# Altium footprint library acelerometerLib.PcbLib: 6 footprints
Each footprint in its own frame and in the unit in brackets; x right, y up, seen from the top. Pads: shape width x height; smd on the part's side, far side on the other; paste and mask are expansions set on the pad; w line width, h text height; cw(c..) or ccw(c..) is an arc to the next point about the centre after c.
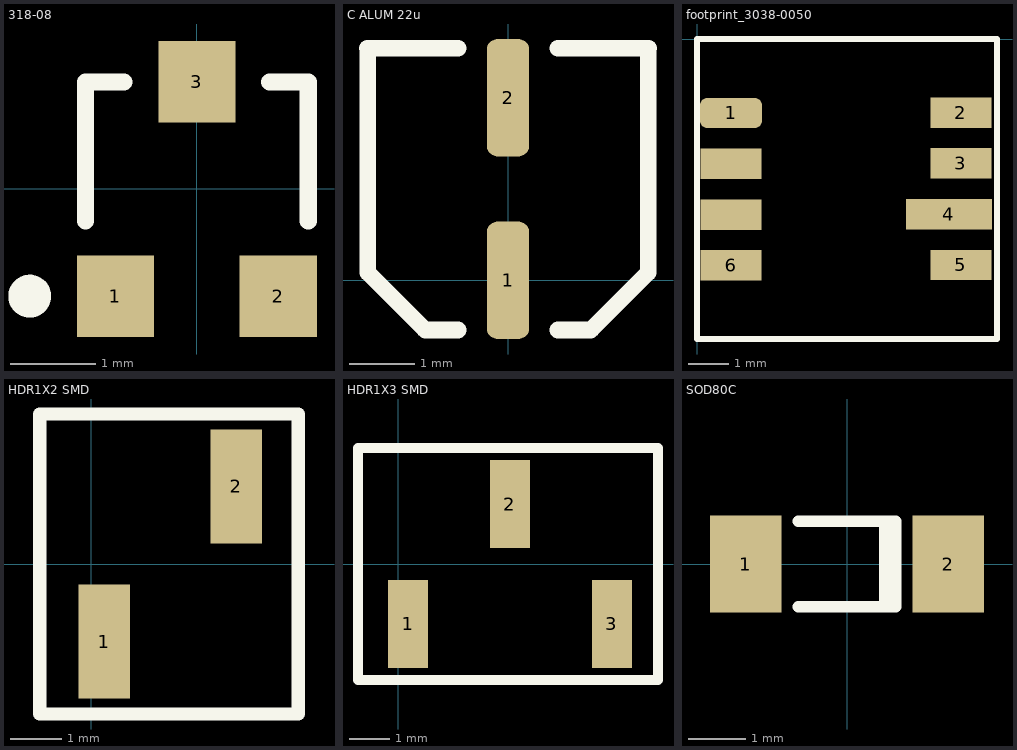
[diagram p0: the footprints below, top view; thin cyan lines are the x and y axes]

## 318-08 [mm] "SOT-23; 3 Leads; Body 3.0 x 2.6 mm, inc. leads (LxW max)"
height 1.11
pads (3):
  rect 0.9x0.95 smd: 1(-0.95,-1.25) 2(0.95,-1.25) 3(0,1.25)
Top Overlay:
  circle w0.25: c-1.95,-1.25 r0.125
  lines w0.2: -1.3,-0.375 -1.3,1.25 -0.85,1.25 ; 0.85,1.25 1.3,1.25 1.3,-0.375
3D body "User Library-SOT23-9.STEP": height 1.1, standoff 0, extent -1.428,-1.121 1.472,1.279

## C ALUM 22u [mm] "C22uF aluminum electrolitic 16V boiture B"
pads (2):
  rrect50% 0.65x1.8 smd: 1(0,0) 2(0,2.8)
Top Overlay:
  lines w0.254: -2.159,3.556 -0.762,3.556 ; -2.15,3.55 -2.15,0.118 -1.282,-0.75 ; -1.27,-0.762 -0.762,-0.762 ; 0.762,-0.762 1.27,-0.762 ; 0.762,3.556 2.159,3.556 ; 1.282,-0.75 2.15,0.118 2.15,3.55
3D body "User Library-CEL4D43S54H.STEP": height 5.4, standoff 0, extent -2.15,-0.909 2.15,3.691

## footprint_3038-0050 [mm]
pads (8):
  rrect50% 1.56x0.76 smd: 1(0.85,-1.85)
  rect 1.52x0.76 smd: 2(6.6,-1.84) 3(6.6,-3.11) 5(6.6,-5.65) 6(0.85,-5.66) ""(0.85,-4.39) ""(0.85,-3.12)
  rect 2.16x0.76 smd: 4(6.3,-4.38)
Top Overlay:
  lines w0.15: 0,-7.5 0,0 7.5,0 7.5,-7.5 0,-7.5
3D body "c-3038-0050-03-e-3d.stp": height 3.3, standoff 0.12, extent 0.004,-7.497 7.497,-0.004

## HDR1X2 SMD [mm]
pads (2):
  rect 1x2.2 smd: 1(0.25,-1.5) 2(2.8,1.5)
Top Overlay:
  lines w0.254: -1,-2.9 -1,2.9 4,2.9 4,-2.9 -1,-2.9
3D body "pin_header_a-sl254-eg-g02mp1.stp": height 9.9, standoff 0.06, extent -1.04,-2.5 4.04,2.5

## HDR1X3 SMD [mm]
pads (3):
  rect 1x2.2 smd: 1(0.25,-1.5) 2(2.8,1.5) 3(5.35,-1.5)
Top Overlay:
  lines w0.254: -1,-2.9 -1,2.9 6.5,2.9 6.5,-2.9 -1,-2.9
3D body "pin_header_a-sl254-eg-g03mp1.stp": height 9.9, standoff 0.06, extent -1.01,-2.5 6.61,2.5

## SOD80C [mm] "Metal Electrode Face (MELF) Diode; Body 3.5 x 1.6 mm (LxDia)"
height 1.6
pads (2):
  rect 1.25x1.7 smd: 1(-1.775,0) 2(1.775,0)
Top Overlay:
  lines w0.2: -0.85,-0.75 0.85,-0.75 0.85,0.75 -0.85,0.75 ; 0.66,-0.75 0.66,0.75
3D body "User Library-Mini2-F4-B.STEP": height 0.8, standoff -0.03, extent -1.75,-0.8 1.75,0.8